# EAGLE library part ISOW7821FDWE (library ISOW7821FDWE)
High-efficiency, low-emissions, reinforced digital isolator with integrated power Source: Datasheet <http://www.ti.com/lit/ds/symlink/isow7821.pdf>
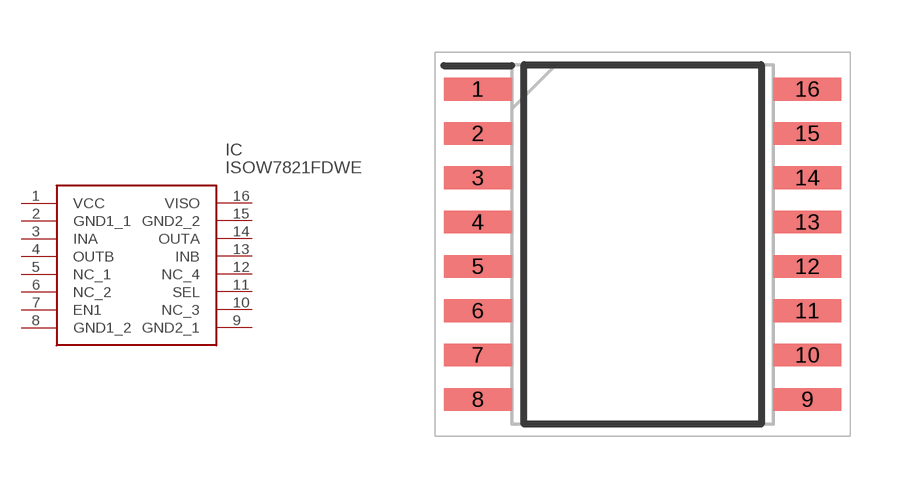
[diagram p0: symbol with the pads of SOIC127P1030X265-16N; footprint SOIC127P1030X265-16N]

Designator prefix IC

## ISOW7821FDWE (Description: High-efficiency, low-emissions, reinforced digital isolator with integrated power; Height: 2.65mm; Manufacturer_Name: Texas Instruments; Manufacturer_Part_Number: ISOW7821FDWE; Mouser_Part_Number: 595-ISOW7821FDWE; Mouser_Price-Stock: https://www.mouser.com/Search/Refine.aspx?Keyword=595-ISOW7821FDWE)  [SOIC127P1030X265-16N]
1  VCC
2  GND1_1
3  INA
4  OUTB
5  NC_1
6  NC_2
7  EN1
8  GND1_2
9  GND2_1
10  NC_3
11  SEL
12  NC_4
13  INB
14  OUTA
15  GND2_2
16  VISO

## Footprint SOIC127P1030X265-16N (pad centres in mm)
DWE0016A
smd 1.95 x 0.65: 1 -4.725,4.445; 2 -4.725,3.175; 3 -4.725,1.905; 4 -4.725,0.635; 5 -4.725,-0.635; 6 -4.725,-1.905; 7 -4.725,-3.175; 8 -4.725,-4.445; 9 4.725,-4.445; 10 4.725,-3.175; 11 4.725,-1.905; 12 4.725,-0.635; 13 4.725,0.635; 14 4.725,1.905; 15 4.725,3.175; 16 4.725,4.445